# EAGLE library part 10118194-0001LF1 (library USB-Micro-B-2.0)
USB-B-MICRO-TYPE 2.0.
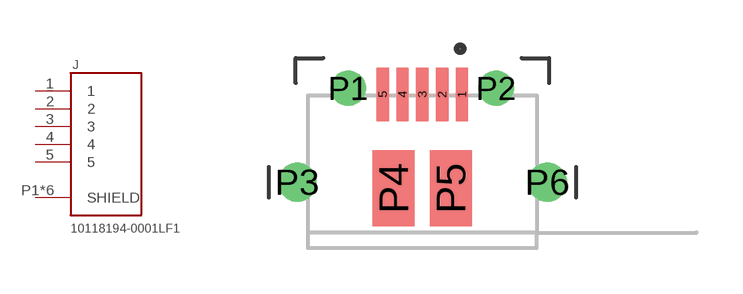
[diagram p1: symbol with the pads of AMPHENOL_10118194-0001LF1; footprint AMPHENOL_10118194-0001LF1]

Designator prefix J

## 10118194-0001LF1  [AMPHENOL_10118194-0001LF1]
1  1  pas
2  2  pas
3  3  pas
4  4  pas
5  5  pas
P1  SHIELD  pas
P2  SHIELD  pas
P3  SHIELD  pas
P4  SHIELD  pas
P5  SHIELD  pas
P6  SHIELD  pas

## Footprint AMPHENOL_10118194-0001LF1 (pad centres in mm)
USB2.0-B-MICRO
smd 0.4 x 1.75: 1 1.3,1.605; 2 0.65,1.605; 3 0,1.605; 4 -0.65,1.605; 5 -1.3,1.605
drill 0.65 pad 1.016: P1 -2.425,1.81; P2 2.425,1.81
drill 0.7 pad 1.27: P3 -4.1,-1.27; P6 4.1,-1.27
smd 1.375 x 2.5: P4 -0.938,-1.47; P5 0.938,-1.47